# EAGLE library part W65C02S (library commodore)
Western Digital Version
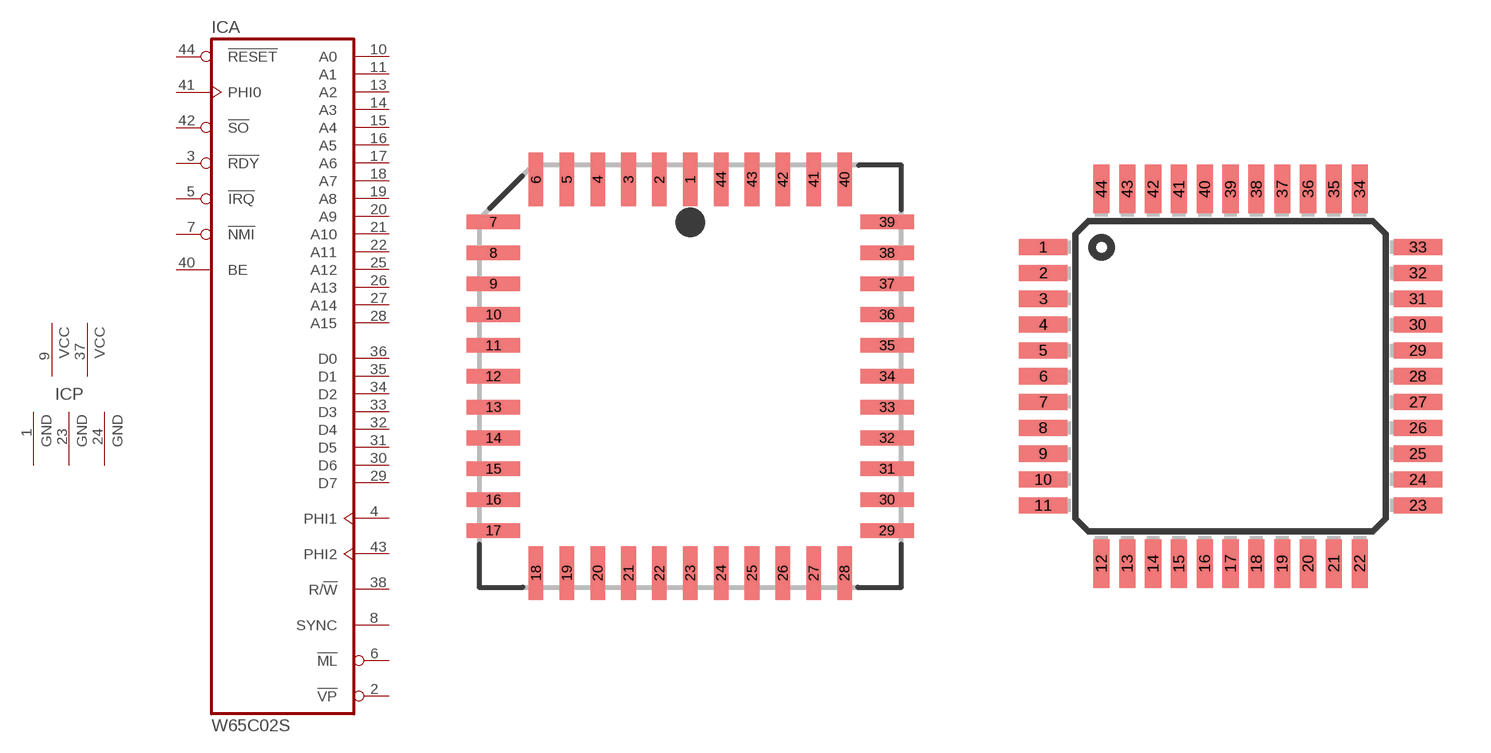
[diagram p49: symbol with the pads of PLCC44; footprints PLCC44, TQFP44]

Designator prefix IC; gates A=65C02S P=PWR2-GND3

## W65C02SPL  [PLCC44]
1  P:GND  pwr
2  A:!VP  out
3  A:!RDY
4  A:PHI1  out
5  A:!IRQ  in
6  A:!ML  out
7  A:!NMI  in
8  A:SYNC  out
9  P:VCC  pwr
10  A:A0
11  A:A1
13  A:A2
14  A:A3
15  A:A4
16  A:A5
17  A:A6
18  A:A7
19  A:A8
20  A:A9
21  A:A10
22  A:A11
23  P:GND  pwr
24  P:GND  pwr
25  A:A12
26  A:A13
27  A:A14
28  A:A15
29  A:D7
30  A:D6
31  A:D5
32  A:D4
33  A:D3
34  A:D2
35  A:D1
36  A:D0
37  P:VCC  pwr
38  A:R/!W  out
40  A:BE  in
41  A:PHI0  in
42  A:!SO  in
43  A:PHI2  out
44  A:!RESET  in

## W65C02SQ  [TQFP44]
Pads as for PLCC44

## Footprint PLCC44 (pad centres in mm)
Plastic Leaded Chip Carrier
smd 0.6 x 2.2: 1 0,8.1; 2 -1.27,8.1; 3 -2.54,8.1; 4 -3.81,8.1; 5 -5.08,8.1; 6 -6.35,8.1; 18 -6.35,-8.1; 19 -5.08,-8.1; 20 -3.81,-8.1; 21 -2.54,-8.1; 22 -1.27,-8.1; 23 0,-8.1; 24 1.27,-8.1; 25 2.54,-8.1; 26 3.81,-8.1; 27 5.08,-8.1; 28 6.35,-8.1; 40 6.35,8.1; 41 5.08,8.1; 42 3.81,8.1; 43 2.54,8.1; 44 1.27,8.1
smd 2.2 x 0.6: 7 -8.1,6.35; 8 -8.1,5.08; 9 -8.1,3.81; 10 -8.1,2.54; 11 -8.1,1.27; 12 -8.1,0; 13 -8.1,-1.27; 14 -8.1,-2.54; 15 -8.1,-3.81; 16 -8.1,-5.08; 17 -8.1,-6.35; 29 8.1,-6.35; 30 8.1,-5.08; 31 8.1,-3.81; 32 8.1,-2.54; 33 8.1,-1.27; 34 8.1,0; 35 8.1,1.27; 36 8.1,2.54; 37 8.1,3.81; 38 8.1,5.08; 39 8.1,6.35

## Footprint TQFP44 (pad centres in mm)
Thin Quad Flat Pack package type TQ
smd 1.5 x 0.5: 1 -5.8,4; 2 -5.8,3.2; 3 -5.8,2.4; 4 -5.8,1.6; 5 -5.8,0.8; 6 -5.8,0; 7 -5.8,-0.8; 8 -5.8,-1.6; 9 -5.8,-2.4; 10 -5.8,-3.2; 11 -5.8,-4; 23 5.8,-4; 24 5.8,-3.2; 25 5.8,-2.4; 26 5.8,-1.6; 27 5.8,-0.8; 28 5.8,0; 29 5.8,0.8; 30 5.8,1.6; 31 5.8,2.4; 32 5.8,3.2; 33 5.8,4
smd 0.5 x 1.5: 12 -4,-5.8; 13 -3.2,-5.8; 14 -2.4,-5.8; 15 -1.6,-5.8; 16 -0.8,-5.8; 17 0,-5.8; 18 0.8,-5.8; 19 1.6,-5.8; 20 2.4,-5.8; 21 3.2,-5.8; 22 4,-5.8; 34 4,5.8; 35 3.2,5.8; 36 2.4,5.8; 37 1.6,5.8; 38 0.8,5.8; 39 0,5.8; 40 -0.8,5.8; 41 -1.6,5.8; 42 -2.4,5.8; 43 -3.2,5.8; 44 -4,5.8